# Altium schematic symbol library LQH44PN1R0NP0L.SchLib: 1 symbol
Pins are listed as number, name and electrical type; pins without a type are passive.

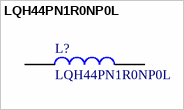
[diagram p0: symbol LQH44PN1R0NP0L]

## LQH44PN1R0NP0L
designator L?
Murata LQH44P_P0 Series Shielded Wire-wound SMD Inductor 1 H 30% 2950mA Idc; Manufacturer_Name: Murata Electronics; Geometry.Height: 1.8mm; Mouser Part Number: *; Manufacturer_Part_Number: LQH44PN1R0NP0L; Datasheet Link: https://www.mouser.co.il/datasheet/2/281/o05e-1115425.pdf
footprint INDM4040X180N
pins: 1, 2